# Altium schematic symbol library QUTMS_MuliplexerLibrary.SchLib: 1 symbol
Pins are listed as number, name and electrical type; pins without a type are passive.

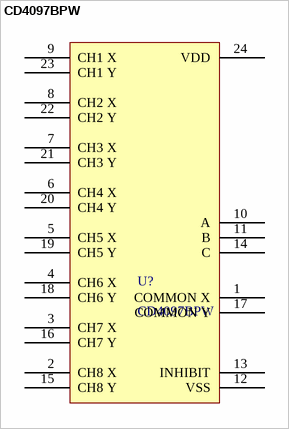
[diagram p0: symbol CD4097BPW]

## CD4097BPW
designator U?
2 Circuit IC Switch 8:1 240Ohm, TSSOP-24
footprint TSSOP-24
pins: 1 COMMON X, 2 CH8 X, 3 CH7 X, 4 CH6 X, 5 CH5 X, 6 CH4 X, 7 CH3 X, 8 CH2 X, 9 CH1 X, 10 A, 11 B, 12 VSS, 13 INHIBIT, 14 C, 15 CH8 Y, 16 CH7 Y, 17 COMMON Y, 18 CH6 Y, 19 CH5 Y, 20 CH4 Y, 21 CH3 Y, 22 CH2 Y, 23 CH1 Y, 24 VDD